# Altium footprint library Resistors-potenciometers.PcbLib: 78 footprints (part 1 of 5)
Each footprint in its own frame and in the unit in brackets; x right, y up, seen from the top. Pads: shape width x height; smd on the part's side, far side on the other; paste and mask are expansions set on the pad; w line width, h text height; cw(c..) or ccw(c..) is an arc to the next point about the centre after c.
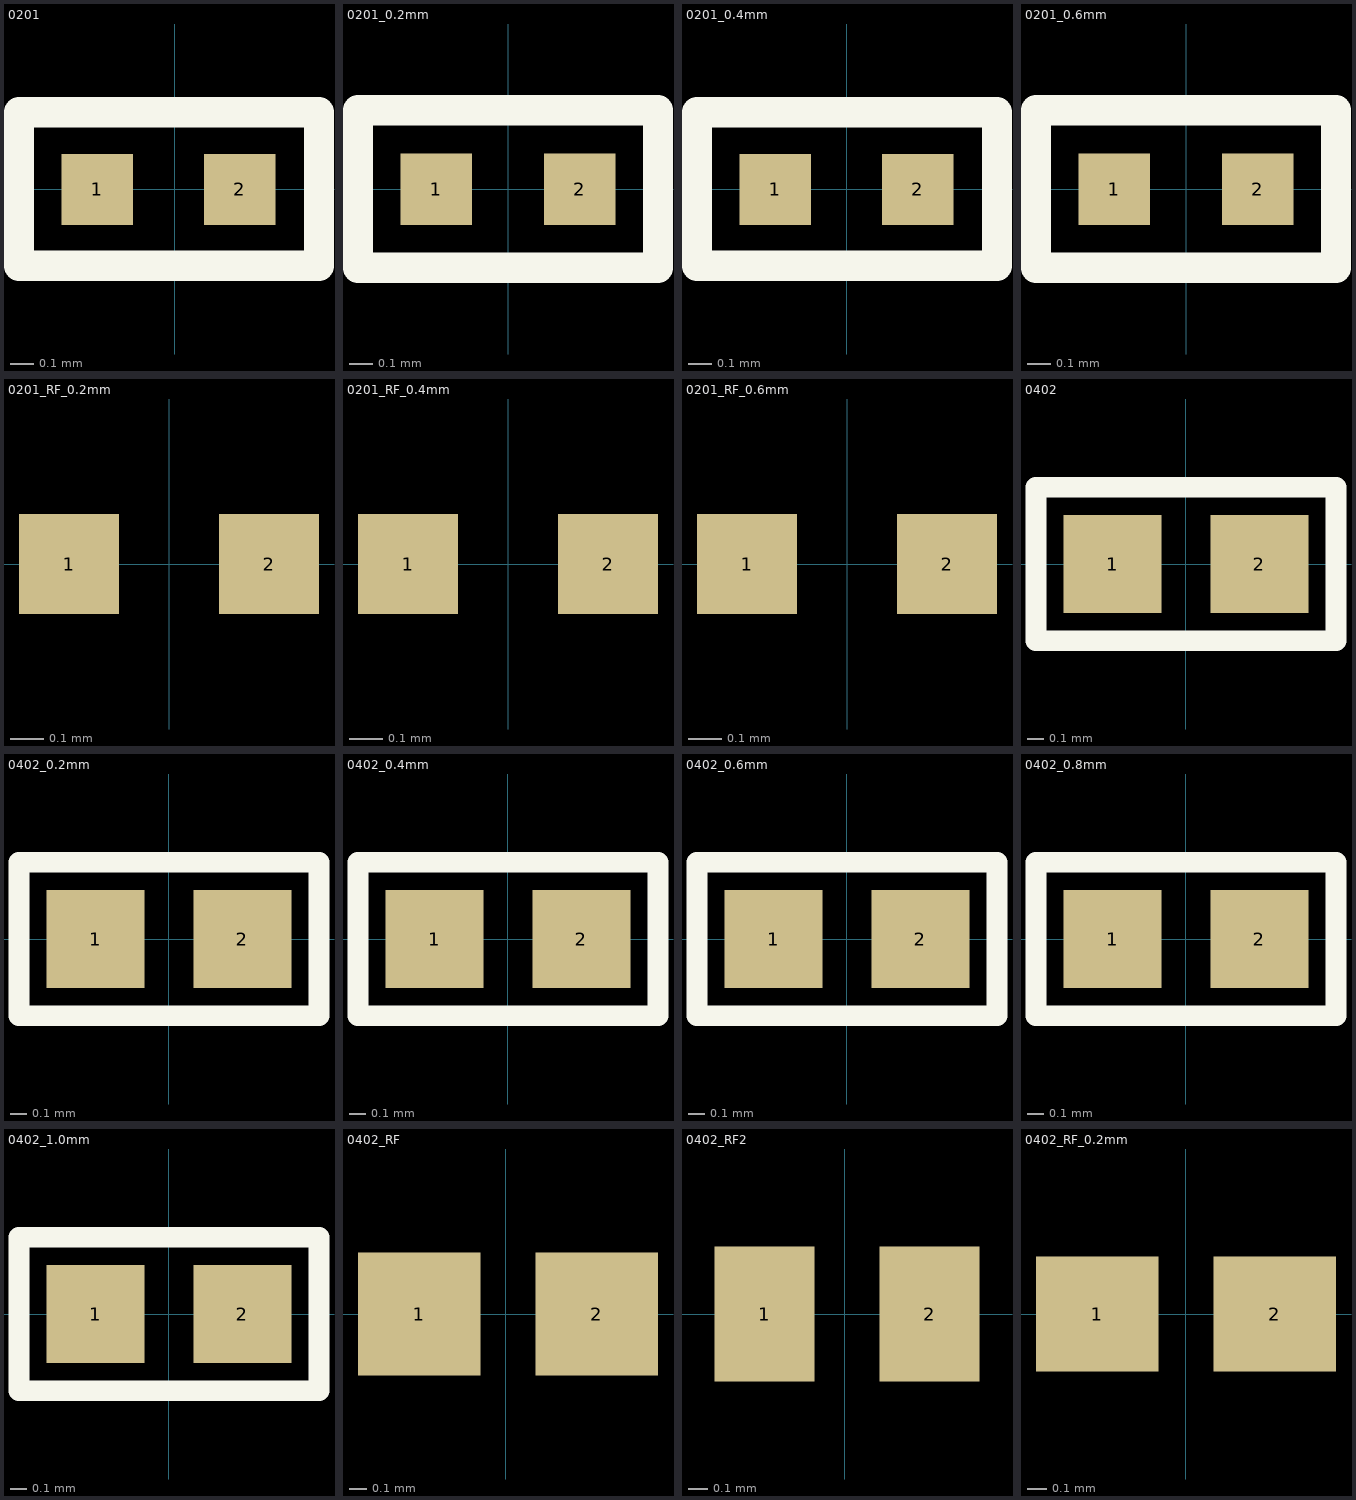
[diagram p0: the footprints below, top view; thin cyan lines are the x and y axes]

## 0201 [mm] "20211214 / A-F.Romo"
pads (2):
  rect 0.3x0.3 smd: 1(-0.325,0) 2(0.275,0)
Top Overlay:
  lines w0.127: -0.655,-0.321 0.609,-0.321 0.609,0.325 -0.655,0.325 -0.655,-0.321
3D body "0201_PAN.step": height 0.27, standoff 0, extent -0.318,-0.165 0.318,0.165

## 0201_0.2mm [mm] "0603 Metric/20230206/J-A.Sepulveda"
pads (2):
  rect 0.3x0.3 smd: 1(-0.3,0) 2(0.3,0)
Top Overlay:
  lines w0.127: -0.627,-0.329 0.627,-0.329 0.627,0.331 -0.627,0.331 -0.627,-0.329
3D body: height 0.3, standoff 0.1, extent -0.315,-0.165 0.315,0.165

## 0201_0.4mm [mm] "0603 Metric/20230303/J-A.Sepulveda"
pads (2):
  rect 0.3x0.3 smd: 1(-0.3,0) 2(0.3,0)
Top Overlay:
  lines w0.127: -0.63,-0.321 0.634,-0.321 0.634,0.325 -0.63,0.325 -0.63,-0.321
3D body: height 0.5, standoff 0.1, extent -0.315,-0.165 0.315,0.165

## 0201_0.6mm [mm] "0603 Metric/20230206/J-A.Sepulveda"
pads (2):
  rect 0.3x0.3 smd: 1(-0.3,0) 2(0.3,0)
Top Overlay:
  lines w0.127: -0.627,-0.329 -0.627,0.331 0.627,0.331 0.627,-0.329 -0.627,-0.329
3D body: height 0.7, standoff 0.1, extent -0.315,-0.165 0.315,0.165

## 0201_RF_0.2mm [mm] "0603 Metric/20230306/J-A.Sepulveda"
pads (2):
  rect 0.3x0.3 smd: 1(-0.3,0) 2(0.3,0)
3D body: height 0.3, standoff 0.1, extent -0.315,-0.165 0.315,0.165

## 0201_RF_0.4mm [mm] "0603 Metric/20230306/J-A.Sepulveda"
pads (2):
  rect 0.3x0.3 smd: 1(-0.3,0) 2(0.3,0)
3D body: height 0.5, standoff 0.1, extent -0.315,-0.165 0.315,0.165

## 0201_RF_0.6mm [mm] "0603 Metric/20230306/J-A.Sepulveda"
pads (2):
  rect 0.3x0.3 smd: 1(-0.3,0) 2(0.3,0)
3D body: height 0.7, standoff 0.1, extent -0.315,-0.165 0.315,0.165

## 0402 [mm] "1005 Metric / 20190222 / N-A.Potosi"
pads (2):
  rect 0.6x0.6 smd: 1(-0.45,0) 2(0.45,0)
Top Overlay:
  lines w0.127: -0.92,-0.47 -0.92,0.47 0.92,0.47 0.92,-0.47 -0.92,-0.47 ; -0.92,-0.47 -0.92,-0.47
3D body: height 0.25, standoff 0, extent -0.5,-0.25 0.5,0.25

## 0402_0.2mm [mm] "1005 Metric/20230206/J-A.Sepulveda"
pads (2):
  rect 0.6x0.6 smd: 1(-0.45,0) 2(0.45,0)
Top Overlay:
  lines w0.127: -0.92,-0.47 -0.92,-0.47 ; -0.92,-0.47 0.92,-0.47 0.92,0.47 -0.92,0.47 -0.92,-0.47
3D body: height 0.3, standoff 0.1, extent -0.5,-0.25 0.5,0.25

## 0402_0.4mm [mm] "1005 Metric/20230303/J-A.Sepulveda"
pads (2):
  rect 0.6x0.6 smd: 1(-0.45,0) 2(0.45,0)
Top Overlay:
  lines w0.127: -0.92,-0.47 -0.92,-0.47 ; -0.92,-0.47 0.92,-0.47 0.92,0.47 -0.92,0.47 -0.92,-0.47
3D body: height 0.5, standoff 0.1, extent -0.5,-0.25 0.5,0.25

## 0402_0.6mm [mm] "1005 Metric/20230303/J-A.Sepulveda"
pads (2):
  rect 0.6x0.6 smd: 1(-0.45,0) 2(0.45,0)
Top Overlay:
  lines w0.127: -0.92,-0.47 -0.92,-0.47 ; -0.92,-0.47 0.92,-0.47 0.92,0.47 -0.92,0.47 -0.92,-0.47
3D body: height 0.7, standoff 0.1, extent -0.5,-0.25 0.5,0.25

## 0402_0.8mm [mm] "1005 Metric/20230303/J-A.Sepulveda"
pads (2):
  rect 0.6x0.6 smd: 1(-0.45,0) 2(0.45,0)
Top Overlay:
  lines w0.127: -0.92,-0.47 -0.92,-0.47 ; -0.92,-0.47 0.92,-0.47 0.92,0.47 -0.92,0.47 -0.92,-0.47
3D body: height 0.9, standoff 0.1, extent -0.5,-0.25 0.5,0.25

## 0402_1.0mm [mm] "1005 Metric/20230303/J-A.Sepulveda"
pads (2):
  rect 0.6x0.6 smd: 1(-0.45,0) 2(0.45,0)
Top Overlay:
  lines w0.127: -0.92,-0.47 -0.92,0.47 0.92,0.47 0.92,-0.47 -0.92,-0.47 ; -0.92,-0.47 -0.92,-0.47
3D body: height 1.1, standoff 0.1, extent -0.5,-0.25 0.5,0.25

## 0402_RF [mil] "1005 Metric / 20230306/ J-A.Sepulveda"
pads (2):
  rect 27x27 smd: 1(-19,0) 2(20,0)
3D body: height 21.65, standoff 0, extent -19.68,-9.84 19.69,9.85

## 0402_RF2 [mil] "1005 Metric / 20190222 / N-A.Potosi"
pads (2):
  rect 20x27 smd mask+2: 1(-16,0) 2(17,0)
3D body: height 21.65, standoff 0, extent -19.68,-9.84 19.69,9.85

## 0402_RF_0.2mm [mm] "1005 Metric/20230306/J-A.Sepulveda"
pads (2):
  rect 0.62x0.584 smd: 1(-0.45,0) 2(0.45,0)
3D body: height 0.3, standoff 0.1, extent -0.5,-0.25 0.5,0.25